# Altium footprint library con-omron.PCBLIB: 109 footprints (part 5 of 8)
Each footprint in its own frame and in the unit in brackets; x right, y up, seen from the top. Pads: shape width x height; smd on the part's side, far side on the other; paste and mask are expansions set on the pad; w line width, h text height; cw(c..) or ccw(c..) is an arc to the next point about the centre after c.
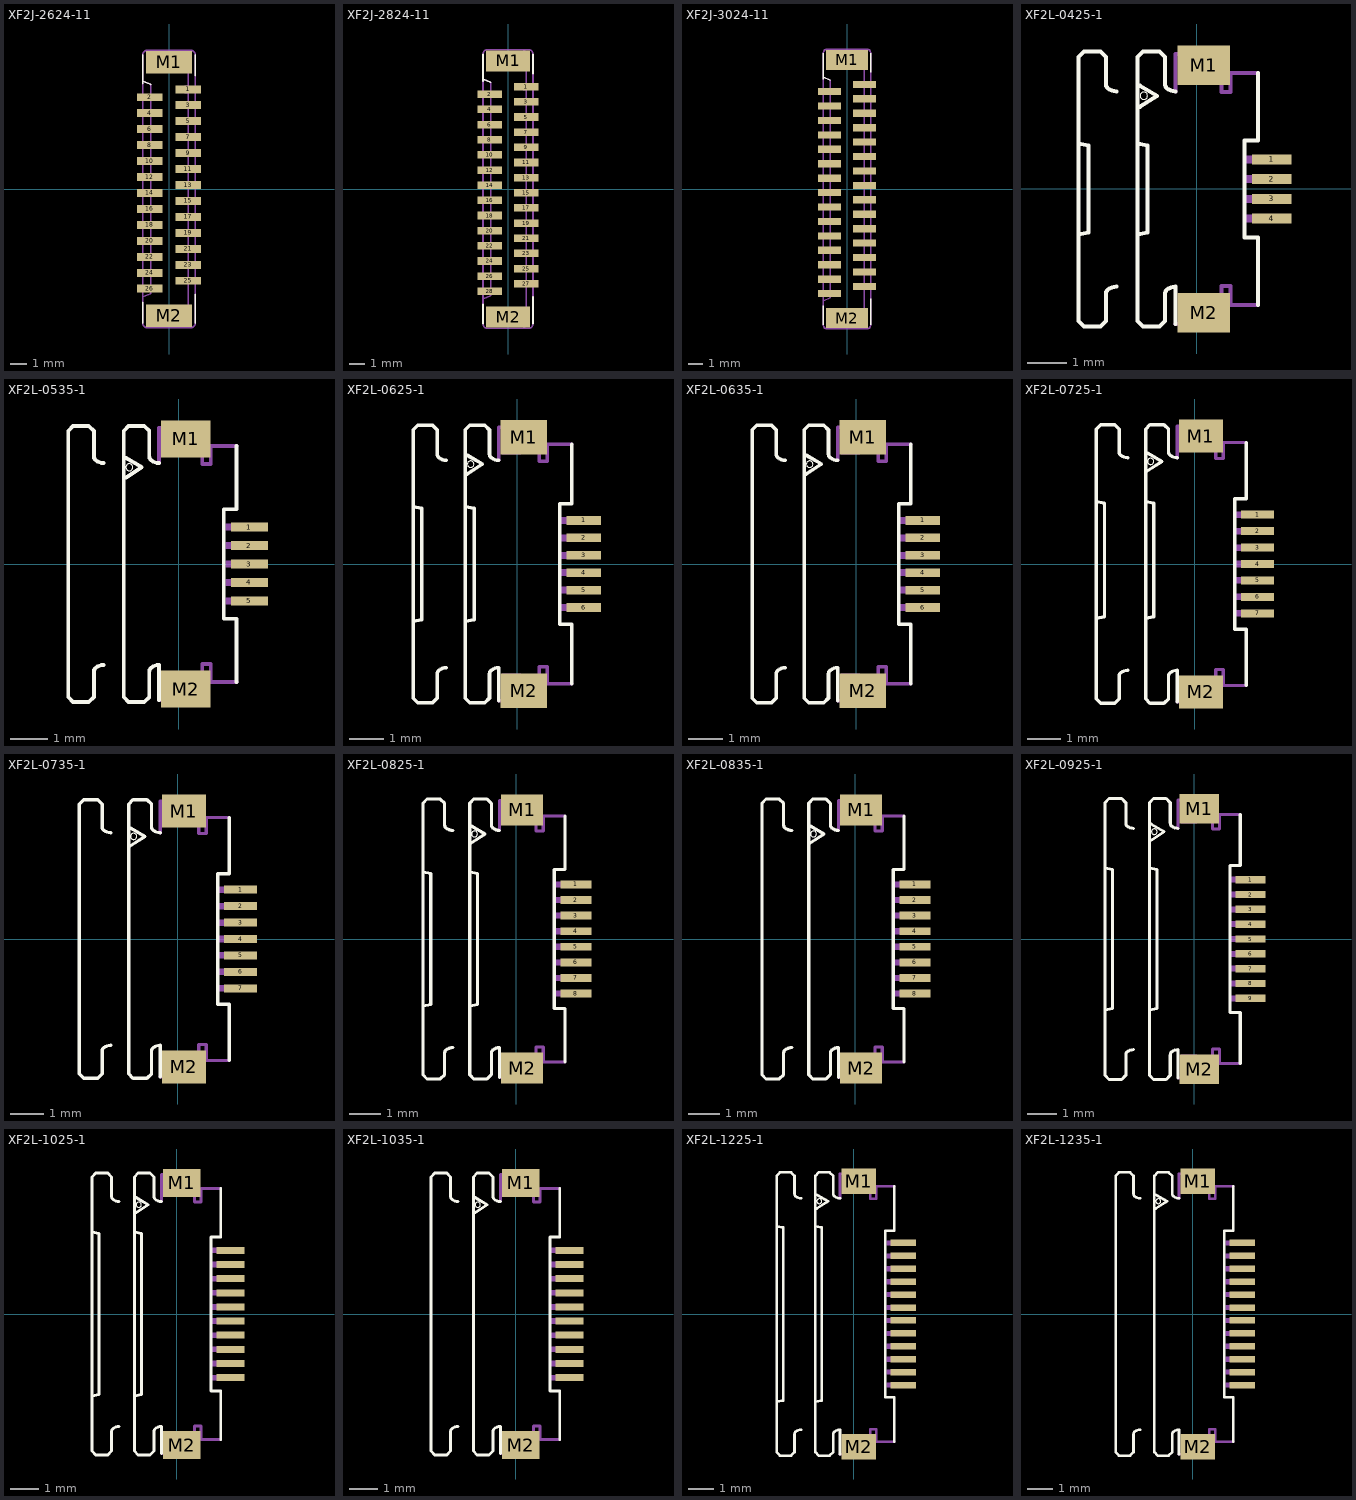
[diagram p4: the footprints below, top view; thin cyan lines are the x and y axes]

## XF2J-2624-11 [mm]
pads (28):
  rect 1.6x0.5 smd: 1(1.2,6.25) 2(-1.2,5.75) 3(1.2,5.25) 4(-1.2,4.75) 5(1.2,4.25) 6(-1.2,3.75) 7(1.2,3.25) 8(-1.2,2.75) 9(1.2,2.25) 10(-1.2,1.75) 11(1.2,1.25) 12(-1.2,0.75) 13(1.2,0.25) 14(-1.2,-0.25) 15(1.2,-0.75) 16(-1.2,-1.25) 17(1.2,-1.75) 18(-1.2,-2.25) 19(1.2,-2.75) 20(-1.2,-3.25) 21(1.2,-3.75) 22(-1.2,-4.25) 23(1.2,-4.75) 24(-1.2,-5.25) 25(1.2,-5.75) 26(-1.2,-6.25)
  rect 2.9x1.4 smd: M1(0,7.95) M2(0,-7.95)
Top Overlay:
  lines w0.102: -1.65,-8.4 -1.65,-7.1 ; -1.65,6.6 -1.65,8.4 ; -1.625,6.75 -1.15,6.55 ; 1.65,-8.4 1.65,-6.6 ; 1.65,7.1 1.65,8.4
Mechanical 16:
  lines w0.102: -1.625,-6.75 -1.15,-6.55 -1.15,6.55 -1.625,6.75 ; 0.975,-8.7 1.35,-8.7 ccw(c1.35,-8.4) 1.65,-8.4 1.65,8.4 ccw(c1.35,8.4) 1.35,8.7 1,8.7 ; 1.15,6.05 1,6.05 1,6.45 1.15,6.45 ; -1.65,-8.4 -1.65,8.4 cw(c-1.35,8.4) -1.35,8.7 0.9,8.7 cw(c0.9,8.4) 1.2,8.4 1.2,-8.4 cw(c0.9,-8.4) 0.9,-8.7 -1.35,-8.7 cw(c-1.35,-8.4) -1.65,-8.4

## XF2J-2824-11 [mm]
pads (30):
  rect 1.6x0.5 smd: 1(1.2,6.75) 2(-1.2,6.25) 3(1.2,5.75) 4(-1.2,5.25) 5(1.2,4.75) 6(-1.2,4.25) 7(1.2,3.75) 8(-1.2,3.25) 9(1.2,2.75) 10(-1.2,2.25) 11(1.2,1.75) 12(-1.2,1.25) 13(1.2,0.75) 14(-1.2,0.25) 15(1.2,-0.25) 16(-1.2,-0.75) 17(1.2,-1.25) 18(-1.2,-1.75) 19(1.2,-2.25) 20(-1.2,-2.75) 21(1.2,-3.25) 22(-1.2,-3.75) 23(1.2,-4.25) 24(-1.2,-4.75) 25(1.2,-5.25) 26(-1.2,-5.75) 27(1.2,-6.25) 28(-1.2,-6.75)
  rect 2.9x1.4 smd: M1(0,8.45) M2(0,-8.45)
Top Overlay:
  lines w0.102: -1.65,-8.9 -1.65,-7.6 ; -1.65,7.1 -1.65,8.9 ; -1.625,7.25 -1.15,7.05 ; 1.65,-8.9 1.65,-7.1 ; 1.65,7.6 1.65,8.9
Mechanical 16:
  lines w0.102: -1.625,-7.25 -1.15,-7.05 -1.15,7.05 -1.625,7.25 ; 0.975,-9.2 1.35,-9.2 ccw(c1.35,-8.9) 1.65,-8.9 1.65,8.9 ccw(c1.35,8.9) 1.35,9.2 1,9.2 ; 1.15,6.55 1,6.55 1,6.95 1.15,6.95 ; -1.65,-8.9 -1.65,8.9 cw(c-1.35,8.9) -1.35,9.2 0.9,9.2 cw(c0.9,8.9) 1.2,8.9 1.2,-8.9 cw(c0.9,-8.9) 0.9,-9.2 -1.35,-9.2 cw(c-1.35,-8.9) -1.65,-8.9

## XF2J-3024-11 [mm]
pads (32):
  rect 1.6x0.5 smd: 1(1.2,7.25) 2(-1.2,6.75) 3(1.2,6.25) 4(-1.2,5.75) 5(1.2,5.25) 6(-1.2,4.75) 7(1.2,4.25) 8(-1.2,3.75) 9(1.2,3.25) 10(-1.2,2.75) 11(1.2,2.25) 12(-1.2,1.75) 13(1.2,1.25) 14(-1.2,0.75) 15(1.2,0.25) 16(-1.2,-0.25) 17(1.2,-0.75) 18(-1.2,-1.25) 19(1.2,-1.75) 20(-1.2,-2.25) 21(1.2,-2.75) 22(-1.2,-3.25) 23(1.2,-3.75) 24(-1.2,-4.25) 25(1.2,-4.75) 26(-1.2,-5.25) 27(1.2,-5.75) 28(-1.2,-6.25) 29(1.2,-6.75) 30(-1.2,-7.25)
  rect 2.9x1.4 smd: M1(0,8.95) M2(0,-8.95)
Top Overlay:
  lines w0.102: -1.65,-9.4 -1.65,-8.1 ; -1.65,7.6 -1.65,9.4 ; -1.625,7.75 -1.15,7.55 ; 1.65,-9.4 1.65,-7.6 ; 1.65,8.1 1.65,9.4
Mechanical 16:
  lines w0.102: -1.625,-7.75 -1.15,-7.55 -1.15,7.55 -1.625,7.75 ; 0.975,-9.7 1.35,-9.7 ccw(c1.35,-9.4) 1.65,-9.4 1.65,9.4 ccw(c1.35,9.4) 1.35,9.7 1,9.7 ; 1.15,7.05 1,7.05 1,7.45 1.15,7.45 ; -1.65,-9.4 -1.65,9.4 cw(c-1.35,9.4) -1.35,9.7 0.9,9.7 cw(c0.9,9.4) 1.2,9.4 1.2,-9.4 cw(c0.9,-9.4) 0.9,-9.7 -1.35,-9.7 cw(c-1.35,-9.4) -1.65,-9.4

## XF2L-0425-1 [mm]
pads (6):
  rect 1x0.25 smd: 1(1.905,0.75) 2(1.905,0.25) 3(1.905,-0.25) 4(1.905,-0.75)
  rect 1.34x1 smd: M1(0.18,3.137) M2(0.18,-3.137)
Top Overlay:
  circle w0: c-1.341,2.367 r0.095
  lines w0.102: -2.995,-1.15 -2.745,-1.1 -2.745,1.1 -2.995,1.15 ; -2.04,-2.48 ccw(c-2.04,-2.819) -2.253,-2.556 ccw(c-2.173,-2.656) -2.301,-2.656 -2.301,-3.348 -2.438,-3.485 -2.865,-3.485 -2.995,-3.35 -2.995,3.35 -2.865,3.485 -2.438,3.485 -2.301,3.348 -2.301,2.656 ccw(c-2.173,2.656) -2.253,2.556 ccw(c-2.04,2.819) -2.04,2.48 ; -1.441,2.082 -1.005,2.367 -1.441,2.623 ; -0.54,-3.433 -0.54,-2.48 ccw(c-0.54,-2.819) -0.754,-2.556 ccw(c-0.673,-2.656) -0.801,-2.656 -0.801,-3.348 -0.939,-3.485 -1.365,-3.485 -1.495,-3.35 -1.495,-1.15 ; -0.54,2.48 cw(c-0.54,2.819) -0.754,2.556 cw(c-0.673,2.656) -0.801,2.656 -0.801,3.348 -0.939,3.485 -1.365,3.485 -1.495,3.35 -1.495,1.15 ; 1.538,1.229 1.213,1.229 1.213,-1.229 1.559,-1.229 1.559,-2.94 ; 1.559,1.229 1.559,2.94 ; -1.495,-1.15 -1.495,1.15 ; -1.495,-1.15 -1.245,-1.1 -1.245,1.1 -1.495,1.15
Top Solder:
  rectangle: 1.355,0.575 2.455,0.925
  rectangle: 1.355,0.075 2.455,0.425
  rectangle: 1.355,-0.425 2.455,-0.075
  rectangle: 1.355,-0.925 2.455,-0.575
Mechanical 16:
  rectangle: 0.105,-3.45 0.805,-2.925
  rectangle: -0.445,-3.45 0.105,-2.65
  rectangle: 0.105,-3.45 0.805,-2.925
  rectangle: -0.445,-3.45 0.105,-2.65
  rectangle: 0.105,2.925 0.805,3.45
  rectangle: -0.445,2.65 0.105,3.45
  rectangle: 1.255,0.65 1.98,0.85
  rectangle: 1.255,0.15 1.98,0.35
  rectangle: 1.255,-0.35 1.98,-0.15
  rectangle: 1.255,-0.85 1.98,-0.65
  lines w0.102: -0.54,-3.433 0.512,-3.433 0.512,-2.95 -0.019,-2.95 -0.019,-2.803 0.63,-2.803 0.63,-2.457 0.858,-2.457 0.858,-2.94 1.559,-2.94 ; -0.54,2.48 -0.54,3.433 0.512,3.433 0.512,2.95 -0.019,2.95 -0.019,2.803 0.63,2.803 0.63,2.457 0.858,2.457 0.858,2.94 1.559,2.94
  text "Upper-contact" at -0.5,2.25 h0.35

## XF2L-0535-1 [mm]
pads (7):
  rect 1x0.25 smd: 1(1.905,1) 2(1.905,0.5) 3(1.905,0) 4(1.905,-0.5) 5(1.905,-1)
  rect 1.34x1 smd: M1(0.18,3.388) M2(0.18,-3.388)
Top Overlay:
  circle w0: c-1.341,2.617 r0.095
  lines w0.102: -2.04,-2.731 ccw(c-2.04,-3.069) -2.253,-2.806 ccw(c-2.173,-2.906) -2.301,-2.906 -2.301,-3.598 -2.438,-3.735 -2.865,-3.735 -2.995,-3.6 -2.995,3.6 -2.865,3.735 -2.438,3.735 -2.301,3.598 -2.301,2.906 ccw(c-2.173,2.906) -2.253,2.806 ccw(c-2.04,3.069) -2.04,2.731 ; -1.441,2.332 -1.005,2.617 -1.441,2.872 ; -0.54,-3.683 -0.54,-2.73 ccw(c-0.54,-3.069) -0.754,-2.806 ccw(c-0.673,-2.906) -0.801,-2.906 -0.801,-3.598 -0.939,-3.735 -1.365,-3.735 -1.495,-3.6 -1.495,3.6 -1.365,3.735 -0.939,3.735 -0.801,3.598 -0.801,2.906 ccw(c-0.673,2.906) -0.754,2.806 ccw(c-0.54,3.069) -0.54,2.731 ; 1.538,1.479 1.213,1.479 1.213,-1.479 1.559,-1.479 1.559,-3.19 ; 1.559,1.479 1.559,3.19
Top Solder:
  rectangle: 1.355,0.825 2.455,1.175
  rectangle: 1.355,0.325 2.455,0.675
  rectangle: 1.355,-0.175 2.455,0.175
  rectangle: 1.355,-0.675 2.455,-0.325
  rectangle: 1.355,-1.175 2.455,-0.825
Mechanical 16:
  rectangle: 0.105,-3.7 0.805,-3.175
  rectangle: -0.445,-3.7 0.105,-2.9
  rectangle: 0.105,-3.7 0.805,-3.175
  rectangle: -0.445,-3.7 0.105,-2.9
  rectangle: 0.105,3.175 0.805,3.7
  rectangle: -0.445,2.9 0.105,3.7
  rectangle: 1.255,0.9 1.98,1.1
  rectangle: 1.255,0.4 1.98,0.6
  rectangle: 1.255,-0.1 1.98,0.1
  rectangle: 1.255,-0.6 1.98,-0.4
  rectangle: 1.255,-1.1 1.98,-0.9
  lines w0.102: -0.54,-3.683 0.512,-3.683 0.512,-3.2 -0.019,-3.2 -0.019,-3.053 0.63,-3.053 0.63,-2.707 0.858,-2.707 0.858,-3.19 1.559,-3.19 ; -0.54,2.73 -0.54,3.683 0.512,3.683 0.512,3.2 -0.019,3.2 -0.019,3.053 0.63,3.053 0.63,2.707 0.858,2.707 0.858,3.19 1.559,3.19
  text "Lower-contact" at -0.5,2.25 h0.35

## XF2L-0625-1 [mm]
pads (8):
  rect 1x0.25 smd: 1(1.905,1.25) 2(1.905,0.75) 3(1.905,0.25) 4(1.905,-0.25) 5(1.905,-0.75) 6(1.905,-1.25)
  rect 1.34x1 smd: M1(0.18,3.638) M2(0.18,-3.638)
Top Overlay:
  circle w0: c-1.341,2.867 r0.095
  lines w0.102: -2.995,-1.65 -2.745,-1.6 -2.745,1.6 -2.995,1.65 ; -2.04,-2.98 ccw(c-2.04,-3.319) -2.253,-3.056 ccw(c-2.173,-3.156) -2.301,-3.156 -2.301,-3.848 -2.438,-3.985 -2.865,-3.985 -2.995,-3.85 -2.995,3.85 -2.865,3.985 -2.438,3.985 -2.301,3.848 -2.301,3.156 ccw(c-2.173,3.156) -2.253,3.056 ccw(c-2.04,3.319) -2.04,2.98 ; -1.495,-1.65 -1.245,-1.6 -1.245,1.6 -1.495,1.65 ; -1.441,2.582 -1.005,2.867 -1.441,3.123 ; -0.54,-3.933 -0.54,-2.98 ccw(c-0.54,-3.319) -0.754,-3.056 ccw(c-0.673,-3.156) -0.801,-3.156 -0.801,-3.848 -0.939,-3.985 -1.365,-3.985 -1.495,-3.85 -1.495,3.85 -1.365,3.985 -0.939,3.985 -0.801,3.848 -0.801,3.156 ccw(c-0.673,3.156) -0.754,3.056 ccw(c-0.54,3.319) -0.54,2.98 ; 1.538,1.729 1.213,1.729 1.213,-1.729 1.559,-1.729 1.559,-3.44 ; 1.559,1.729 1.559,3.44
Top Solder:
  rectangle: 1.355,1.075 2.455,1.425
  rectangle: 1.355,0.575 2.455,0.925
  rectangle: 1.355,0.075 2.455,0.425
  rectangle: 1.355,-0.425 2.455,-0.075
  rectangle: 1.355,-0.925 2.455,-0.575
  rectangle: 1.355,-1.425 2.455,-1.075
Mechanical 16:
  rectangle: 0.105,-3.95 0.805,-3.425
  rectangle: -0.445,-3.95 0.105,-3.15
  rectangle: 0.105,-3.95 0.805,-3.425
  rectangle: -0.445,-3.95 0.105,-3.15
  rectangle: 0.105,3.425 0.805,3.95
  rectangle: -0.445,3.15 0.105,3.95
  rectangle: 1.255,1.15 1.98,1.35
  rectangle: 1.255,0.65 1.98,0.85
  rectangle: 1.255,0.15 1.98,0.35
  rectangle: 1.255,-0.35 1.98,-0.15
  rectangle: 1.255,-0.85 1.98,-0.65
  rectangle: 1.255,-1.35 1.98,-1.15
  lines w0.102: -0.54,-3.933 0.512,-3.933 0.512,-3.45 -0.019,-3.45 -0.019,-3.303 0.63,-3.303 0.63,-2.957 0.858,-2.957 0.858,-3.44 1.559,-3.44 ; -0.54,2.98 -0.54,3.933 0.512,3.933 0.512,3.45 -0.019,3.45 -0.019,3.303 0.63,3.303 0.63,2.957 0.858,2.957 0.858,3.44 1.559,3.44
  text "Upper-contact" at -0.5,2.5 h0.35

## XF2L-0635-1 [mm]
pads (8):
  rect 1x0.25 smd: 1(1.905,1.25) 2(1.905,0.75) 3(1.905,0.25) 4(1.905,-0.25) 5(1.905,-0.75) 6(1.905,-1.25)
  rect 1.34x1 smd: M1(0.18,3.638) M2(0.18,-3.638)
Top Overlay:
  circle w0: c-1.341,2.867 r0.095
  lines w0.102: -2.04,-2.98 ccw(c-2.04,-3.319) -2.253,-3.056 ccw(c-2.173,-3.156) -2.301,-3.156 -2.301,-3.848 -2.438,-3.985 -2.865,-3.985 -2.995,-3.85 -2.995,3.85 -2.865,3.985 -2.438,3.985 -2.301,3.848 -2.301,3.156 ccw(c-2.173,3.156) -2.253,3.056 ccw(c-2.04,3.319) -2.04,2.98 ; -1.441,2.582 -1.005,2.867 -1.441,3.123 ; -0.54,-3.933 -0.54,-2.98 ccw(c-0.54,-3.319) -0.754,-3.056 ccw(c-0.673,-3.156) -0.801,-3.156 -0.801,-3.848 -0.939,-3.985 -1.365,-3.985 -1.495,-3.85 -1.495,3.85 -1.365,3.985 -0.939,3.985 -0.801,3.848 -0.801,3.156 ccw(c-0.673,3.156) -0.754,3.056 ccw(c-0.54,3.319) -0.54,2.98 ; 1.538,1.729 1.213,1.729 1.213,-1.729 1.559,-1.729 1.559,-3.44 ; 1.559,1.729 1.559,3.44
Top Solder:
  rectangle: 1.355,1.075 2.455,1.425
  rectangle: 1.355,0.575 2.455,0.925
  rectangle: 1.355,0.075 2.455,0.425
  rectangle: 1.355,-0.425 2.455,-0.075
  rectangle: 1.355,-0.925 2.455,-0.575
  rectangle: 1.355,-1.425 2.455,-1.075
Mechanical 16:
  rectangle: 0.105,-3.95 0.805,-3.425
  rectangle: -0.445,-3.95 0.105,-3.15
  rectangle: 0.105,-3.95 0.805,-3.425
  rectangle: -0.445,-3.95 0.105,-3.15
  rectangle: 0.105,3.425 0.805,3.95
  rectangle: -0.445,3.15 0.105,3.95
  rectangle: 1.255,1.15 1.98,1.35
  rectangle: 1.255,0.65 1.98,0.85
  rectangle: 1.255,0.15 1.98,0.35
  rectangle: 1.255,-0.35 1.98,-0.15
  rectangle: 1.255,-0.85 1.98,-0.65
  rectangle: 1.255,-1.35 1.98,-1.15
  lines w0.102: -0.54,-3.933 0.512,-3.933 0.512,-3.45 -0.019,-3.45 -0.019,-3.303 0.63,-3.303 0.63,-2.957 0.858,-2.957 0.858,-3.44 1.559,-3.44 ; -0.54,2.98 -0.54,3.933 0.512,3.933 0.512,3.45 -0.019,3.45 -0.019,3.303 0.63,3.303 0.63,2.957 0.858,2.957 0.858,3.44 1.559,3.44
  text "Lower-contact" at -0.5,2.5 h0.35

## XF2L-0725-1 [mm]
pads (9):
  rect 1x0.25 smd: 1(1.905,1.5) 2(1.905,1) 3(1.905,0.5) 4(1.905,0) 5(1.905,-0.5) 6(1.905,-1) 7(1.905,-1.5)
  rect 1.34x1 smd: M1(0.18,3.887) M2(0.18,-3.887)
Top Overlay:
  circle w0: c-1.341,3.117 r0.095
  lines w0.102: -2.995,-1.65 -2.745,-1.6 -2.745,1.85 -2.995,1.9 ; -2.04,-3.23 ccw(c-2.04,-3.569) -2.253,-3.306 ccw(c-2.173,-3.406) -2.301,-3.406 -2.301,-4.098 -2.438,-4.235 -2.865,-4.235 -2.995,-4.1 -2.995,4.1 -2.865,4.235 -2.438,4.235 -2.301,4.098 -2.301,3.406 ccw(c-2.173,3.406) -2.253,3.306 ccw(c-2.04,3.569) -2.04,3.23 ; -1.495,-1.65 -1.245,-1.6 -1.245,1.85 -1.495,1.9 ; -1.441,2.832 -1.005,3.117 -1.441,3.373 ; -0.54,-4.183 -0.54,-3.23 ccw(c-0.54,-3.569) -0.754,-3.306 ccw(c-0.673,-3.406) -0.801,-3.406 -0.801,-4.098 -0.939,-4.235 -1.365,-4.235 -1.495,-4.1 -1.495,4.1 -1.365,4.235 -0.939,4.235 -0.801,4.098 -0.801,3.406 ccw(c-0.673,3.406) -0.754,3.306 ccw(c-0.54,3.569) -0.54,3.23 ; 1.538,1.979 1.213,1.979 1.213,-1.979 1.559,-1.979 1.559,-3.69 ; 1.559,1.979 1.559,3.69
Top Solder:
  rectangle: 1.355,1.325 2.455,1.675
  rectangle: 1.355,0.825 2.455,1.175
  rectangle: 1.355,0.325 2.455,0.675
  rectangle: 1.355,-0.175 2.455,0.175
  rectangle: 1.355,-0.675 2.455,-0.325
  rectangle: 1.355,-1.175 2.455,-0.825
  rectangle: 1.355,-1.675 2.455,-1.325
Mechanical 16:
  rectangle: 0.105,-4.2 0.805,-3.675
  rectangle: -0.445,-4.2 0.105,-3.4
  rectangle: 0.105,-4.2 0.805,-3.675
  rectangle: -0.445,-4.2 0.105,-3.4
  rectangle: 0.105,3.675 0.805,4.2
  rectangle: -0.445,3.4 0.105,4.2
  rectangle: 1.255,1.4 1.98,1.6
  rectangle: 1.255,0.9 1.98,1.1
  rectangle: 1.255,0.4 1.98,0.6
  rectangle: 1.255,-0.1 1.98,0.1
  rectangle: 1.255,-0.6 1.98,-0.4
  rectangle: 1.255,-1.1 1.98,-0.9
  rectangle: 1.255,-1.6 1.98,-1.4
  lines w0.102: -0.54,-4.183 0.512,-4.183 0.512,-3.7 -0.019,-3.7 -0.019,-3.553 0.63,-3.553 0.63,-3.207 0.858,-3.207 0.858,-3.69 1.559,-3.69 ; -0.54,3.23 -0.54,4.183 0.512,4.183 0.512,3.7 -0.019,3.7 -0.019,3.553 0.63,3.553 0.63,3.207 0.858,3.207 0.858,3.69 1.559,3.69
  text "Upper-contact" at -0.5,2.75 h0.35

## XF2L-0735-1 [mm]
pads (9):
  rect 1x0.25 smd: 1(1.905,1.5) 2(1.905,1) 3(1.905,0.5) 4(1.905,0) 5(1.905,-0.5) 6(1.905,-1) 7(1.905,-1.5)
  rect 1.34x1 smd: M1(0.18,3.887) M2(0.18,-3.887)
Top Overlay:
  circle w0: c-1.341,3.117 r0.095
  lines w0.102: -2.04,-3.23 ccw(c-2.04,-3.569) -2.253,-3.306 ccw(c-2.173,-3.406) -2.301,-3.406 -2.301,-4.098 -2.438,-4.235 -2.865,-4.235 -2.995,-4.1 -2.995,4.1 -2.865,4.235 -2.438,4.235 -2.301,4.098 -2.301,3.406 ccw(c-2.173,3.406) -2.253,3.306 ccw(c-2.04,3.569) -2.04,3.23 ; -1.441,2.832 -1.005,3.117 -1.441,3.373 ; -0.54,-4.183 -0.54,-3.23 ccw(c-0.54,-3.569) -0.754,-3.306 ccw(c-0.673,-3.406) -0.801,-3.406 -0.801,-4.098 -0.939,-4.235 -1.365,-4.235 -1.495,-4.1 -1.495,4.1 -1.365,4.235 -0.939,4.235 -0.801,4.098 -0.801,3.406 ccw(c-0.673,3.406) -0.754,3.306 ccw(c-0.54,3.569) -0.54,3.23 ; 1.538,1.979 1.213,1.979 1.213,-1.979 1.559,-1.979 1.559,-3.69 ; 1.559,1.979 1.559,3.69
Top Solder:
  rectangle: 1.355,1.325 2.455,1.675
  rectangle: 1.355,0.825 2.455,1.175
  rectangle: 1.355,0.325 2.455,0.675
  rectangle: 1.355,-0.175 2.455,0.175
  rectangle: 1.355,-0.675 2.455,-0.325
  rectangle: 1.355,-1.175 2.455,-0.825
  rectangle: 1.355,-1.675 2.455,-1.325
Mechanical 16:
  rectangle: 0.105,-4.2 0.805,-3.675
  rectangle: -0.445,-4.2 0.105,-3.4
  rectangle: 0.105,-4.2 0.805,-3.675
  rectangle: -0.445,-4.2 0.105,-3.4
  rectangle: 0.105,3.675 0.805,4.2
  rectangle: -0.445,3.4 0.105,4.2
  rectangle: 1.255,1.4 1.98,1.6
  rectangle: 1.255,0.9 1.98,1.1
  rectangle: 1.255,0.4 1.98,0.6
  rectangle: 1.255,-0.1 1.98,0.1
  rectangle: 1.255,-0.6 1.98,-0.4
  rectangle: 1.255,-1.1 1.98,-0.9
  rectangle: 1.255,-1.6 1.98,-1.4
  lines w0.102: -0.54,-4.183 0.512,-4.183 0.512,-3.7 -0.019,-3.7 -0.019,-3.553 0.63,-3.553 0.63,-3.207 0.858,-3.207 0.858,-3.69 1.559,-3.69 ; -0.54,3.23 -0.54,4.183 0.512,4.183 0.512,3.7 -0.019,3.7 -0.019,3.553 0.63,3.553 0.63,3.207 0.858,3.207 0.858,3.69 1.559,3.69
  text "Lower-contact" at -0.5,2.75 h0.35

## XF2L-0825-1 [mm]
pads (10):
  rect 1x0.25 smd: 1(1.905,1.75) 2(1.905,1.25) 3(1.905,0.75) 4(1.905,0.25) 5(1.905,-0.25) 6(1.905,-0.75) 7(1.905,-1.25) 8(1.905,-1.75)
  rect 1.34x1 smd: M1(0.18,4.137) M2(0.18,-4.137)
Top Overlay:
  circle w0: c-1.341,3.367 r0.095
  lines w0.102: -2.995,-2.15 -2.745,-2.1 -2.745,2.1 -2.995,2.15 ; -2.04,-3.48 ccw(c-2.04,-3.819) -2.253,-3.556 ccw(c-2.173,-3.656) -2.301,-3.656 -2.301,-4.348 -2.438,-4.485 -2.865,-4.485 -2.995,-4.35 -2.995,4.35 -2.865,4.485 -2.438,4.485 -2.301,4.348 -2.301,3.656 ccw(c-2.173,3.656) -2.253,3.556 ccw(c-2.04,3.819) -2.04,3.48 ; -1.495,-2.15 -1.245,-2.1 -1.245,2.1 -1.495,2.15 ; -1.441,3.082 -1.005,3.367 -1.441,3.623 ; -0.54,-4.433 -0.54,-3.48 ccw(c-0.54,-3.819) -0.754,-3.556 ccw(c-0.673,-3.656) -0.801,-3.656 -0.801,-4.348 -0.939,-4.485 -1.365,-4.485 -1.495,-4.35 -1.495,4.35 -1.365,4.485 -0.939,4.485 -0.801,4.348 -0.801,3.656 ccw(c-0.673,3.656) -0.754,3.556 ccw(c-0.54,3.819) -0.54,3.48 ; 1.538,2.229 1.213,2.229 1.213,-2.229 1.559,-2.229 1.559,-3.94 ; 1.559,2.229 1.559,3.94
Top Solder:
  rectangle: 1.355,1.575 2.455,1.925
  rectangle: 1.355,1.075 2.455,1.425
  rectangle: 1.355,0.575 2.455,0.925
  rectangle: 1.355,0.075 2.455,0.425
  rectangle: 1.355,-0.425 2.455,-0.075
  rectangle: 1.355,-0.925 2.455,-0.575
  rectangle: 1.355,-1.425 2.455,-1.075
  rectangle: 1.355,-1.925 2.455,-1.575
Mechanical 16:
  rectangle: 0.105,-4.45 0.805,-3.925
  rectangle: -0.445,-4.45 0.105,-3.65
  rectangle: 0.105,-4.45 0.805,-3.925
  rectangle: -0.445,-4.45 0.105,-3.65
  rectangle: 0.105,3.925 0.805,4.45
  rectangle: -0.445,3.65 0.105,4.45
  rectangle: 1.255,1.65 1.98,1.85
  rectangle: 1.255,1.15 1.98,1.35
  rectangle: 1.255,0.65 1.98,0.85
  rectangle: 1.255,0.15 1.98,0.35
  rectangle: 1.255,-0.35 1.98,-0.15
  rectangle: 1.255,-0.85 1.98,-0.65
  rectangle: 1.255,-1.35 1.98,-1.15
  rectangle: 1.255,-1.85 1.98,-1.65
  lines w0.102: -0.54,-4.433 0.512,-4.433 0.512,-3.95 -0.019,-3.95 -0.019,-3.803 0.63,-3.803 0.63,-3.457 0.858,-3.457 0.858,-3.94 1.559,-3.94 ; -0.54,3.48 -0.54,4.433 0.512,4.433 0.512,3.95 -0.019,3.95 -0.019,3.803 0.63,3.803 0.63,3.457 0.858,3.457 0.858,3.94 1.559,3.94
  text "Upper-contact" at -0.5,3 h0.35

## XF2L-0835-1 [mm]
pads (10):
  rect 1x0.25 smd: 1(1.905,1.75) 2(1.905,1.25) 3(1.905,0.75) 4(1.905,0.25) 5(1.905,-0.25) 6(1.905,-0.75) 7(1.905,-1.25) 8(1.905,-1.75)
  rect 1.34x1 smd: M1(0.18,4.137) M2(0.18,-4.137)
Top Overlay:
  circle w0: c-1.341,3.367 r0.095
  lines w0.102: -2.04,-3.48 ccw(c-2.04,-3.819) -2.253,-3.556 ccw(c-2.173,-3.656) -2.301,-3.656 -2.301,-4.348 -2.438,-4.485 -2.865,-4.485 -2.995,-4.35 -2.995,4.35 -2.865,4.485 -2.438,4.485 -2.301,4.348 -2.301,3.656 ccw(c-2.173,3.656) -2.253,3.556 ccw(c-2.04,3.819) -2.04,3.48 ; -1.441,3.082 -1.005,3.367 -1.441,3.623 ; -0.54,-4.433 -0.54,-3.48 ccw(c-0.54,-3.819) -0.754,-3.556 ccw(c-0.673,-3.656) -0.801,-3.656 -0.801,-4.348 -0.939,-4.485 -1.365,-4.485 -1.495,-4.35 -1.495,4.35 -1.365,4.485 -0.939,4.485 -0.801,4.348 -0.801,3.656 ccw(c-0.673,3.656) -0.754,3.556 ccw(c-0.54,3.819) -0.54,3.48 ; 1.538,2.229 1.213,2.229 1.213,-2.229 1.559,-2.229 1.559,-3.94 ; 1.559,2.229 1.559,3.94
Top Solder:
  rectangle: 1.355,1.575 2.455,1.925
  rectangle: 1.355,1.075 2.455,1.425
  rectangle: 1.355,0.575 2.455,0.925
  rectangle: 1.355,0.075 2.455,0.425
  rectangle: 1.355,-0.425 2.455,-0.075
  rectangle: 1.355,-0.925 2.455,-0.575
  rectangle: 1.355,-1.425 2.455,-1.075
  rectangle: 1.355,-1.925 2.455,-1.575
Mechanical 16:
  rectangle: 0.105,-4.45 0.805,-3.925
  rectangle: -0.445,-4.45 0.105,-3.65
  rectangle: 0.105,-4.45 0.805,-3.925
  rectangle: -0.445,-4.45 0.105,-3.65
  rectangle: 0.105,3.925 0.805,4.45
  rectangle: -0.445,3.65 0.105,4.45
  rectangle: 1.255,1.65 1.98,1.85
  rectangle: 1.255,1.15 1.98,1.35
  rectangle: 1.255,0.65 1.98,0.85
  rectangle: 1.255,0.15 1.98,0.35
  rectangle: 1.255,-0.35 1.98,-0.15
  rectangle: 1.255,-0.85 1.98,-0.65
  rectangle: 1.255,-1.35 1.98,-1.15
  rectangle: 1.255,-1.85 1.98,-1.65
  lines w0.102: -0.54,-4.433 0.512,-4.433 0.512,-3.95 -0.019,-3.95 -0.019,-3.803 0.63,-3.803 0.63,-3.457 0.858,-3.457 0.858,-3.94 1.559,-3.94 ; -0.54,3.48 -0.54,4.433 0.512,4.433 0.512,3.95 -0.019,3.95 -0.019,3.803 0.63,3.803 0.63,3.457 0.858,3.457 0.858,3.94 1.559,3.94
  text "Lower-contact" at -0.5,3 h0.35

## XF2L-0925-1 [mm]
pads (11):
  rect 1x0.25 smd: 1(1.905,2) 2(1.905,1.5) 3(1.905,1) 4(1.905,0.5) 5(1.905,0) 6(1.905,-0.5) 7(1.905,-1) 8(1.905,-1.5) 9(1.905,-2)
  rect 1.34x1 smd: M1(0.18,4.388) M2(0.18,-4.388)
Top Overlay:
  circle w0: c-1.341,3.617 r0.095
  lines w0.102: -2.995,-2.4 -2.745,-2.35 -2.745,2.35 -2.995,2.4 ; -2.04,-3.73 ccw(c-2.04,-4.069) -2.253,-3.806 ccw(c-2.173,-3.906) -2.301,-3.906 -2.301,-4.598 -2.438,-4.735 -2.865,-4.735 -2.995,-4.6 -2.995,4.6 -2.865,4.735 -2.438,4.735 -2.301,4.598 -2.301,3.906 ccw(c-2.173,3.906) -2.253,3.806 ccw(c-2.04,4.069) -2.04,3.73 ; -1.495,-2.4 -1.245,-2.35 -1.245,2.35 -1.495,2.4 ; -1.441,3.332 -1.005,3.617 -1.441,3.872 ; -0.54,-4.683 -0.54,-3.73 ccw(c-0.54,-4.069) -0.754,-3.806 ccw(c-0.673,-3.906) -0.801,-3.906 -0.801,-4.598 -0.939,-4.735 -1.365,-4.735 -1.495,-4.6 -1.495,4.6 -1.365,4.735 -0.939,4.735 -0.801,4.598 -0.801,3.906 ccw(c-0.673,3.906) -0.754,3.806 ccw(c-0.54,4.069) -0.54,3.73 ; 1.538,2.479 1.213,2.479 1.213,-2.479 1.559,-2.479 1.559,-4.19 ; 1.559,2.479 1.559,4.19
Top Solder:
  rectangle: 1.355,1.825 2.455,2.175
  rectangle: 1.355,1.325 2.455,1.675
  rectangle: 1.355,0.825 2.455,1.175
  rectangle: 1.355,0.325 2.455,0.675
  rectangle: 1.355,-0.175 2.455,0.175
  rectangle: 1.355,-0.675 2.455,-0.325
  rectangle: 1.355,-1.175 2.455,-0.825
  rectangle: 1.355,-1.675 2.455,-1.325
  rectangle: 1.355,-2.175 2.455,-1.825
Mechanical 16:
  rectangle: 0.105,-4.7 0.805,-4.175
  rectangle: -0.445,-4.7 0.105,-3.9
  rectangle: 0.105,-4.7 0.805,-4.175
  rectangle: -0.445,-4.7 0.105,-3.9
  rectangle: 0.105,4.175 0.805,4.7
  rectangle: -0.445,3.9 0.105,4.7
  rectangle: 1.255,1.9 1.98,2.1
  rectangle: 1.255,1.4 1.98,1.6
  rectangle: 1.255,0.9 1.98,1.1
  rectangle: 1.255,0.4 1.98,0.6
  rectangle: 1.255,-0.1 1.98,0.1
  rectangle: 1.255,-0.6 1.98,-0.4
  rectangle: 1.255,-1.1 1.98,-0.9
  rectangle: 1.255,-1.6 1.98,-1.4
  rectangle: 1.255,-2.1 1.98,-1.9
  lines w0.102: -0.54,-4.683 0.512,-4.683 0.512,-4.2 -0.019,-4.2 -0.019,-4.053 0.63,-4.053 0.63,-3.707 0.858,-3.707 0.858,-4.19 1.559,-4.19 ; -0.54,3.73 -0.54,4.683 0.512,4.683 0.512,4.2 -0.019,4.2 -0.019,4.053 0.63,4.053 0.63,3.707 0.858,3.707 0.858,4.19 1.559,4.19
  text "Upper-contact" at -0.5,3.25 h0.35

## XF2L-1025-1 [mm]
pads (12):
  rect 1x0.25 smd: 1(1.905,2.25) 2(1.905,1.75) 3(1.905,1.25) 4(1.905,0.75) 5(1.905,0.25) 6(1.905,-0.25) 7(1.905,-0.75) 8(1.905,-1.25) 9(1.905,-1.75) 10(1.905,-2.25)
  rect 1.34x1 smd: M1(0.18,4.638) M2(0.18,-4.638)
Top Overlay:
  circle w0: c-1.341,3.867 r0.095
  lines w0.102: -2.995,-2.9 -2.745,-2.85 -2.745,2.85 -2.995,2.9 ; -2.04,-3.98 ccw(c-2.04,-4.319) -2.253,-4.056 ccw(c-2.173,-4.156) -2.301,-4.156 -2.301,-4.848 -2.438,-4.985 -2.865,-4.985 -2.995,-4.85 -2.995,4.85 -2.865,4.985 -2.438,4.985 -2.301,4.848 -2.301,4.156 ccw(c-2.173,4.156) -2.253,4.056 ccw(c-2.04,4.319) -2.04,3.98 ; -1.495,-2.9 -1.245,-2.85 -1.245,2.85 -1.495,2.9 ; -1.441,3.582 -1.005,3.867 -1.441,4.123 ; -0.54,-4.933 -0.54,-3.98 ccw(c-0.54,-4.319) -0.754,-4.056 ccw(c-0.673,-4.156) -0.801,-4.156 -0.801,-4.848 -0.939,-4.985 -1.365,-4.985 -1.495,-4.85 -1.495,4.85 -1.365,4.985 -0.939,4.985 -0.801,4.848 -0.801,4.156 ccw(c-0.673,4.156) -0.754,4.056 ccw(c-0.54,4.319) -0.54,3.98 ; 1.538,2.729 1.213,2.729 1.213,-2.729 1.559,-2.729 1.559,-4.44 ; 1.559,2.729 1.559,4.44
Top Solder:
  rectangle: 1.355,2.075 2.455,2.425
  rectangle: 1.355,1.575 2.455,1.925
  rectangle: 1.355,1.075 2.455,1.425
  rectangle: 1.355,0.575 2.455,0.925
  rectangle: 1.355,0.075 2.455,0.425
  rectangle: 1.355,-0.425 2.455,-0.075
  rectangle: 1.355,-0.925 2.455,-0.575
  rectangle: 1.355,-1.425 2.455,-1.075
  rectangle: 1.355,-1.925 2.455,-1.575
  rectangle: 1.355,-2.425 2.455,-2.075
Mechanical 16:
  rectangle: 0.105,-4.95 0.805,-4.425
  rectangle: -0.445,-4.95 0.105,-4.15
  rectangle: 0.105,-4.95 0.805,-4.425
  rectangle: -0.445,-4.95 0.105,-4.15
  rectangle: 0.105,4.425 0.805,4.95
  rectangle: -0.445,4.15 0.105,4.95
  rectangle: 1.255,2.15 1.98,2.35
  rectangle: 1.255,1.65 1.98,1.85
  rectangle: 1.255,1.15 1.98,1.35
  rectangle: 1.255,0.65 1.98,0.85
  rectangle: 1.255,0.15 1.98,0.35
  rectangle: 1.255,-0.35 1.98,-0.15
  rectangle: 1.255,-0.85 1.98,-0.65
  rectangle: 1.255,-1.35 1.98,-1.15
  rectangle: 1.255,-1.85 1.98,-1.65
  rectangle: 1.255,-2.35 1.98,-2.15
  lines w0.102: -0.54,-4.933 0.512,-4.933 0.512,-4.45 -0.019,-4.45 -0.019,-4.303 0.63,-4.303 0.63,-3.957 0.858,-3.957 0.858,-4.44 1.559,-4.44 ; -0.54,3.98 -0.54,4.933 0.512,4.933 0.512,4.45 -0.019,4.45 -0.019,4.303 0.63,4.303 0.63,3.957 0.858,3.957 0.858,4.44 1.559,4.44
  text "Upper-contact" at -0.5,3.5 h0.35

## XF2L-1035-1 [mm]
pads (12):
  rect 1x0.25 smd: 1(1.905,2.25) 2(1.905,1.75) 3(1.905,1.25) 4(1.905,0.75) 5(1.905,0.25) 6(1.905,-0.25) 7(1.905,-0.75) 8(1.905,-1.25) 9(1.905,-1.75) 10(1.905,-2.25)
  rect 1.34x1 smd: M1(0.18,4.638) M2(0.18,-4.638)
Top Overlay:
  circle w0: c-1.341,3.867 r0.095
  lines w0.102: -2.04,-3.98 ccw(c-2.04,-4.319) -2.253,-4.056 ccw(c-2.173,-4.156) -2.301,-4.156 -2.301,-4.848 -2.438,-4.985 -2.865,-4.985 -2.995,-4.85 -2.995,4.85 -2.865,4.985 -2.438,4.985 -2.301,4.848 -2.301,4.156 ccw(c-2.173,4.156) -2.253,4.056 ccw(c-2.04,4.319) -2.04,3.98 ; -1.441,3.582 -1.005,3.867 -1.441,4.123 ; -0.54,-4.933 -0.54,-3.98 ccw(c-0.54,-4.319) -0.754,-4.056 ccw(c-0.673,-4.156) -0.801,-4.156 -0.801,-4.848 -0.939,-4.985 -1.365,-4.985 -1.495,-4.85 -1.495,4.85 -1.365,4.985 -0.939,4.985 -0.801,4.848 -0.801,4.156 ccw(c-0.673,4.156) -0.754,4.056 ccw(c-0.54,4.319) -0.54,3.98 ; 1.538,2.729 1.213,2.729 1.213,-2.729 1.559,-2.729 1.559,-4.44 ; 1.559,2.729 1.559,4.44
Top Solder:
  rectangle: 1.355,2.075 2.455,2.425
  rectangle: 1.355,1.575 2.455,1.925
  rectangle: 1.355,1.075 2.455,1.425
  rectangle: 1.355,0.575 2.455,0.925
  rectangle: 1.355,0.075 2.455,0.425
  rectangle: 1.355,-0.425 2.455,-0.075
  rectangle: 1.355,-0.925 2.455,-0.575
  rectangle: 1.355,-1.425 2.455,-1.075
  rectangle: 1.355,-1.925 2.455,-1.575
  rectangle: 1.355,-2.425 2.455,-2.075
Mechanical 16:
  rectangle: 0.105,-4.95 0.805,-4.425
  rectangle: -0.445,-4.95 0.105,-4.15
  rectangle: 0.105,-4.95 0.805,-4.425
  rectangle: -0.445,-4.95 0.105,-4.15
  rectangle: 0.105,4.425 0.805,4.95
  rectangle: -0.445,4.15 0.105,4.95
  rectangle: 1.255,2.15 1.98,2.35
  rectangle: 1.255,1.65 1.98,1.85
  rectangle: 1.255,1.15 1.98,1.35
  rectangle: 1.255,0.65 1.98,0.85
  rectangle: 1.255,0.15 1.98,0.35
  rectangle: 1.255,-0.35 1.98,-0.15
  rectangle: 1.255,-0.85 1.98,-0.65
  rectangle: 1.255,-1.35 1.98,-1.15
  rectangle: 1.255,-1.85 1.98,-1.65
  rectangle: 1.255,-2.35 1.98,-2.15
  lines w0.102: -0.54,-4.933 0.512,-4.933 0.512,-4.45 -0.019,-4.45 -0.019,-4.303 0.63,-4.303 0.63,-3.957 0.858,-3.957 0.858,-4.44 1.559,-4.44 ; -0.54,3.98 -0.54,4.933 0.512,4.933 0.512,4.45 -0.019,4.45 -0.019,4.303 0.63,4.303 0.63,3.957 0.858,3.957 0.858,4.44 1.559,4.44
  text "Lower-contact" at -0.5,3.5 h0.35

## XF2L-1225-1 [mm]
pads (14):
  rect 1x0.25 smd: 1(1.905,2.75) 2(1.905,2.25) 3(1.905,1.75) 4(1.905,1.25) 5(1.905,0.75) 6(1.905,0.25) 7(1.905,-0.25) 8(1.905,-0.75) 9(1.905,-1.25) 10(1.905,-1.75) 11(1.905,-2.25) 12(1.905,-2.75)
  rect 1.34x1 smd: M1(0.18,5.137) M2(0.18,-5.137)
Top Overlay:
  circle w0: c-1.341,4.367 r0.095
  lines w0.102: -2.995,-3.4 -2.745,-3.35 -2.745,3.35 -2.995,3.4 ; -2.04,-4.48 ccw(c-2.04,-4.819) -2.253,-4.556 ccw(c-2.173,-4.656) -2.301,-4.656 -2.301,-5.348 -2.438,-5.485 -2.865,-5.485 -2.995,-5.35 -2.995,5.35 -2.865,5.485 -2.438,5.485 -2.301,5.348 -2.301,4.656 ccw(c-2.173,4.656) -2.253,4.556 ccw(c-2.04,4.819) -2.04,4.48 ; -1.495,-3.4 -1.245,-3.35 -1.245,3.35 -1.495,3.4 ; -1.441,4.082 -1.005,4.367 -1.441,4.623 ; -0.54,-5.433 -0.54,-4.48 ccw(c-0.54,-4.819) -0.754,-4.556 ccw(c-0.673,-4.656) -0.801,-4.656 -0.801,-5.348 -0.939,-5.485 -1.365,-5.485 -1.495,-5.35 -1.495,5.35 -1.365,5.485 -0.939,5.485 -0.801,5.348 -0.801,4.656 ccw(c-0.673,4.656) -0.754,4.556 ccw(c-0.54,4.819) -0.54,4.48 ; 1.538,3.229 1.213,3.229 1.213,-3.229 1.559,-3.229 1.559,-4.94 ; 1.559,3.229 1.559,4.94
Top Solder:
  rectangle: 1.355,2.575 2.455,2.925
  rectangle: 1.355,2.075 2.455,2.425
  rectangle: 1.355,1.575 2.455,1.925
  rectangle: 1.355,1.075 2.455,1.425
  rectangle: 1.355,0.575 2.455,0.925
  rectangle: 1.355,0.075 2.455,0.425
  rectangle: 1.355,-0.425 2.455,-0.075
  rectangle: 1.355,-0.925 2.455,-0.575
  rectangle: 1.355,-1.425 2.455,-1.075
  rectangle: 1.355,-1.925 2.455,-1.575
  rectangle: 1.355,-2.425 2.455,-2.075
  rectangle: 1.355,-2.925 2.455,-2.575
Mechanical 16:
  rectangle: 0.105,-5.45 0.805,-4.925
  rectangle: -0.445,-5.45 0.105,-4.65
  rectangle: 0.105,-5.45 0.805,-4.925
  rectangle: -0.445,-5.45 0.105,-4.65
  rectangle: 0.105,4.925 0.805,5.45
  rectangle: -0.445,4.65 0.105,5.45
  rectangle: 1.255,2.65 1.98,2.85
  rectangle: 1.255,2.15 1.98,2.35
  rectangle: 1.255,1.65 1.98,1.85
  rectangle: 1.255,1.15 1.98,1.35
  rectangle: 1.255,0.65 1.98,0.85
  rectangle: 1.255,0.15 1.98,0.35
  rectangle: 1.255,-0.35 1.98,-0.15
  rectangle: 1.255,-0.85 1.98,-0.65
  rectangle: 1.255,-1.35 1.98,-1.15
  rectangle: 1.255,-1.85 1.98,-1.65
  rectangle: 1.255,-2.35 1.98,-2.15
  rectangle: 1.255,-2.85 1.98,-2.65
  lines w0.102: -0.54,-5.433 0.512,-5.433 0.512,-4.95 -0.019,-4.95 -0.019,-4.803 0.63,-4.803 0.63,-4.457 0.858,-4.457 0.858,-4.94 1.559,-4.94 ; -0.54,4.48 -0.54,5.433 0.512,5.433 0.512,4.95 -0.019,4.95 -0.019,4.803 0.63,4.803 0.63,4.457 0.858,4.457 0.858,4.94 1.559,4.94
  text "Upper-contact" at -0.5,4 h0.35

## XF2L-1235-1 [mm]
pads (14):
  rect 1x0.25 smd: 1(1.905,2.75) 2(1.905,2.25) 3(1.905,1.75) 4(1.905,1.25) 5(1.905,0.75) 6(1.905,0.25) 7(1.905,-0.25) 8(1.905,-0.75) 9(1.905,-1.25) 10(1.905,-1.75) 11(1.905,-2.25) 12(1.905,-2.75)
  rect 1.34x1 smd: M1(0.18,5.137) M2(0.18,-5.137)
Top Overlay:
  circle w0: c-1.341,4.367 r0.095
  lines w0.102: -2.04,-4.48 ccw(c-2.04,-4.819) -2.253,-4.556 ccw(c-2.173,-4.656) -2.301,-4.656 -2.301,-5.348 -2.438,-5.485 -2.865,-5.485 -2.995,-5.35 -2.995,5.35 -2.865,5.485 -2.438,5.485 -2.301,5.348 -2.301,4.656 ccw(c-2.173,4.656) -2.253,4.556 ccw(c-2.04,4.819) -2.04,4.48 ; -1.441,4.082 -1.005,4.367 -1.441,4.623 ; -0.54,-5.433 -0.54,-4.48 ccw(c-0.54,-4.819) -0.754,-4.556 ccw(c-0.673,-4.656) -0.801,-4.656 -0.801,-5.348 -0.939,-5.485 -1.365,-5.485 -1.495,-5.35 -1.495,5.35 -1.365,5.485 -0.939,5.485 -0.801,5.348 -0.801,4.656 ccw(c-0.673,4.656) -0.754,4.556 ccw(c-0.54,4.819) -0.54,4.48 ; 1.538,3.229 1.213,3.229 1.213,-3.229 1.559,-3.229 1.559,-4.94 ; 1.559,3.229 1.559,4.94
Top Solder:
  rectangle: 1.355,2.575 2.455,2.925
  rectangle: 1.355,2.075 2.455,2.425
  rectangle: 1.355,1.575 2.455,1.925
  rectangle: 1.355,1.075 2.455,1.425
  rectangle: 1.355,0.575 2.455,0.925
  rectangle: 1.355,0.075 2.455,0.425
  rectangle: 1.355,-0.425 2.455,-0.075
  rectangle: 1.355,-0.925 2.455,-0.575
  rectangle: 1.355,-1.425 2.455,-1.075
  rectangle: 1.355,-1.925 2.455,-1.575
  rectangle: 1.355,-2.425 2.455,-2.075
  rectangle: 1.355,-2.925 2.455,-2.575
Mechanical 16:
  rectangle: 0.105,-5.45 0.805,-4.925
  rectangle: -0.445,-5.45 0.105,-4.65
  rectangle: 0.105,-5.45 0.805,-4.925
  rectangle: -0.445,-5.45 0.105,-4.65
  rectangle: 0.105,4.925 0.805,5.45
  rectangle: -0.445,4.65 0.105,5.45
  rectangle: 1.255,2.65 1.98,2.85
  rectangle: 1.255,2.15 1.98,2.35
  rectangle: 1.255,1.65 1.98,1.85
  rectangle: 1.255,1.15 1.98,1.35
  rectangle: 1.255,0.65 1.98,0.85
  rectangle: 1.255,0.15 1.98,0.35
  rectangle: 1.255,-0.35 1.98,-0.15
  rectangle: 1.255,-0.85 1.98,-0.65
  rectangle: 1.255,-1.35 1.98,-1.15
  rectangle: 1.255,-1.85 1.98,-1.65
  rectangle: 1.255,-2.35 1.98,-2.15
  rectangle: 1.255,-2.85 1.98,-2.65
  lines w0.102: -0.54,-5.433 0.512,-5.433 0.512,-4.95 -0.019,-4.95 -0.019,-4.803 0.63,-4.803 0.63,-4.457 0.858,-4.457 0.858,-4.94 1.559,-4.94 ; -0.54,4.48 -0.54,5.433 0.512,5.433 0.512,4.95 -0.019,4.95 -0.019,4.803 0.63,4.803 0.63,4.457 0.858,4.457 0.858,4.94 1.559,4.94
  text "Lower-contact" at -0.5,4 h0.35